# EAGLE library part CONN_SERIAL (library SNWCT_EAGLE_LBR)
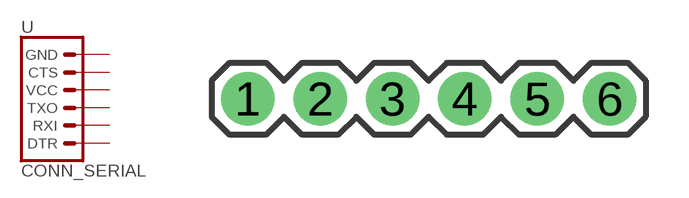
[diagram p10: symbol with the pads of 1X06; footprint 1X06]

Designator prefix -

## CONN_SERIAL  [1X06]
1  DTR  pas
2  RXI  pas
3  TXO  pas
4  VCC  pas
5  CTS  pas
6  GND  pas

## Footprint 1X06 (pad centres in mm)
Plated Through Hole - 6 Pin Specifications: Pin count:6 Pin pitch:0.1" Example device(s): CONN_06
drill 1.016 pad 1.88: 1 0,0; 2 2.54,0; 3 5.08,0; 4 7.62,0; 5 10.16,0; 6 12.7,0